# Altium footprint library common.PcbLib: 93 footprints (part 5 of 6)
Each footprint in its own frame and in the unit in brackets; x right, y up, seen from the top. Pads: shape width x height; smd on the part's side, far side on the other; paste and mask are expansions set on the pad; w line width, h text height; cw(c..) or ccw(c..) is an arc to the next point about the centre after c.
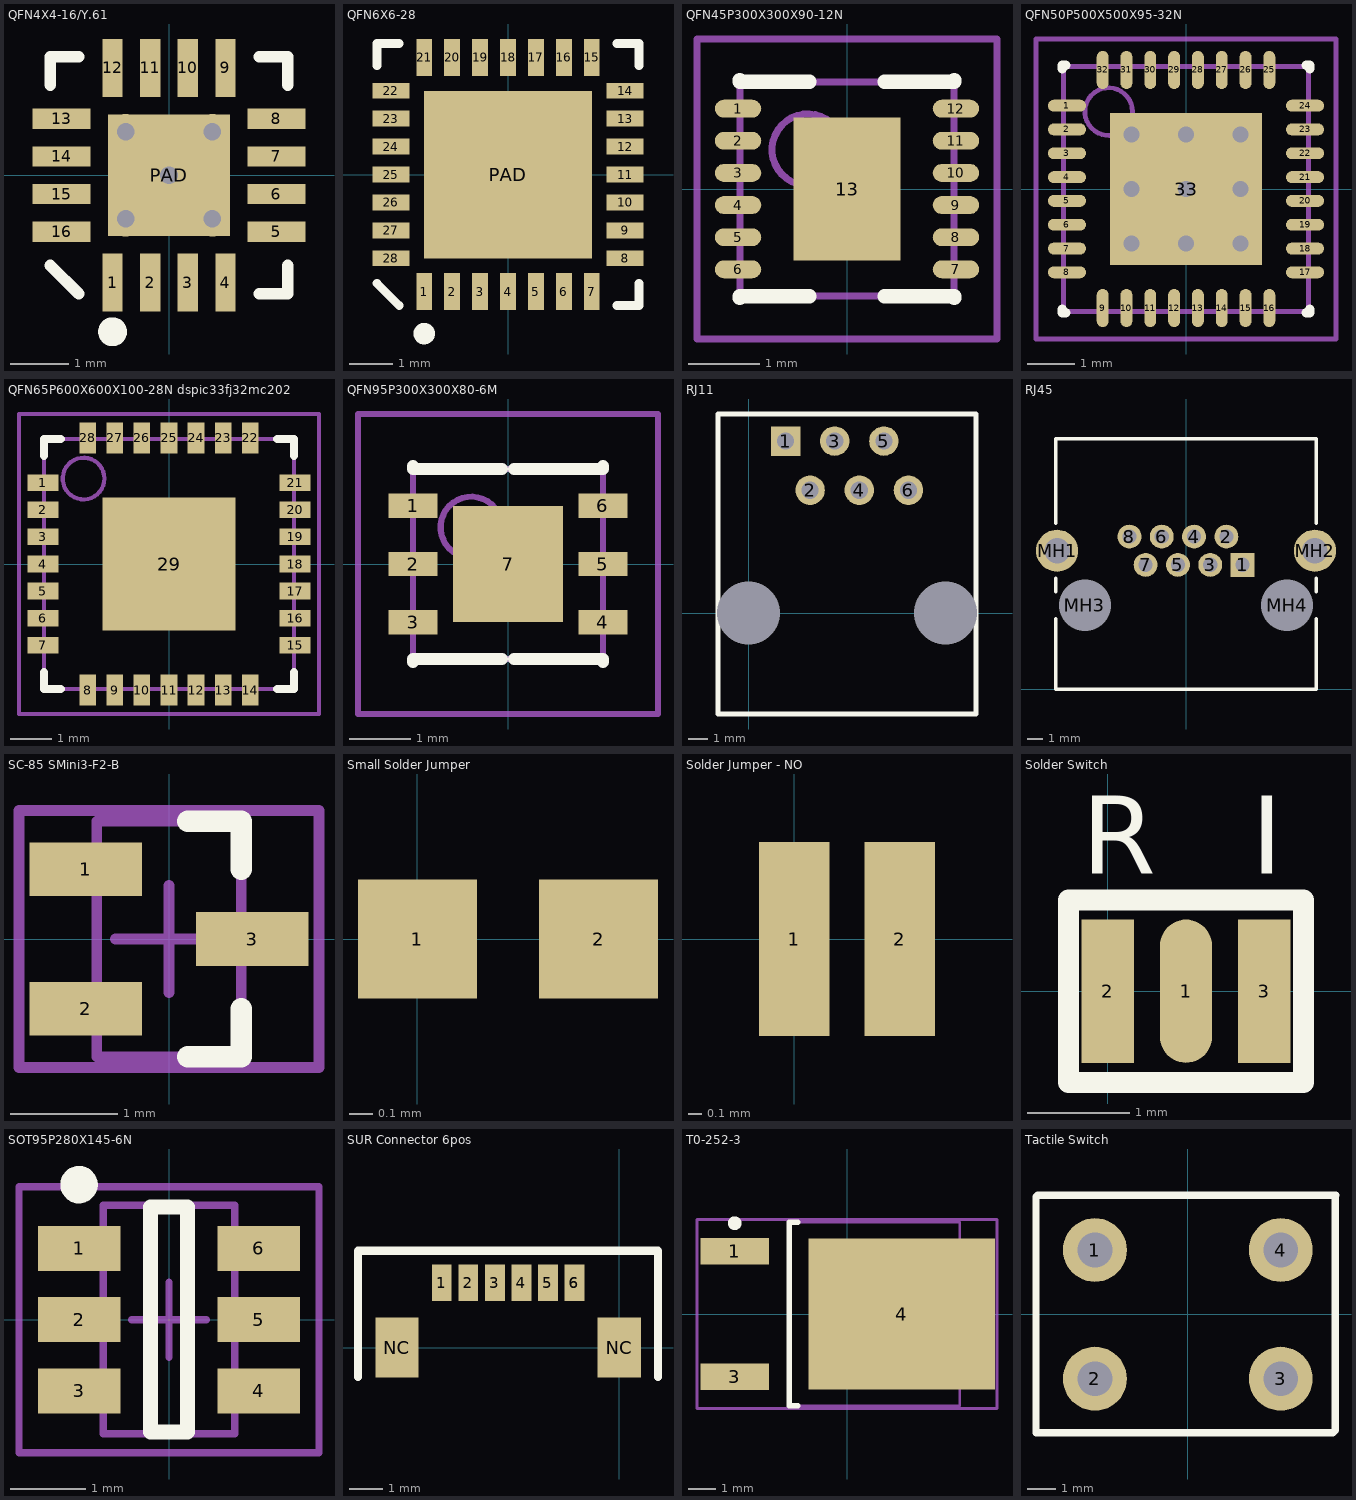
[diagram p4: the footprints below, top view; thin cyan lines are the x and y axes]

## QFN4X4-16/Y.61 [mm] "Quad Flat No Lead, Plastic; 16 Terminals; Body 4 x 4 mm; Pitch 0.65 mm"
height 0.8
pads (17):
  rect 0.35x1 smd: 1(-0.975,-1.855) 2(-0.325,-1.855) 3(0.325,-1.855) 4(0.975,-1.855) 9(0.975,1.855) 10(0.325,1.855) 11(-0.325,1.855) 12(-0.975,1.855)
  rect 1x0.35 smd: 5(1.855,-0.975) 6(1.855,-0.325) 7(1.855,0.325) 8(1.855,0.975) 13(-1.855,0.975) 14(-1.855,0.325) 15(-1.855,-0.325) 16(-1.855,-0.975)
  rect 2.1x2.1 smd: PAD(0,0)
via 0,0 diameter 0.61 hole 0.305
via 0.75,-0.75 diameter 0.61 hole 0.305
via -0.75,-0.75 diameter 0.61 hole 0.305
via 0.75,0.75 diameter 0.61 hole 0.305
via -0.75,0.75 diameter 0.61 hole 0.305
Top Overlay:
  circle w0.25: c-0.975,-2.705 r0.125
  lines w0.2: -2.05,-1.56 -1.56,-2.05 ; -2.05,1.56 -2.05,2.05 -1.56,2.05 ; 1.56,-2.05 2.05,-2.05 2.05,-1.56 ; 1.56,2.05 2.05,2.05 2.05,1.56

## QFN6X6-28 [mm] "Quad Flat No Lead, Plastic, Punch; 28 Terminals; Body 6 x 6 mm; Pitch 0.65 mm"
height 1
pads (29):
  rect 0.37x0.86 smd: 1(-1.95,-2.725) 2(-1.3,-2.725) 3(-0.65,-2.725) 4(0,-2.725) 5(0.65,-2.725) 6(1.3,-2.725) 7(1.95,-2.725) 15(1.95,2.725) 16(1.3,2.725) 17(0.65,2.725) 18(0,2.725) 19(-0.65,2.725) 20(-1.3,2.725) 21(-1.95,2.725)
  rect 0.86x0.37 smd: 8(2.725,-1.95) 9(2.725,-1.3) 10(2.725,-0.65) 11(2.725,0) 12(2.725,0.65) 13(2.725,1.3) 14(2.725,1.95) 22(-2.725,1.95) 23(-2.725,1.3) 24(-2.725,0.65) 25(-2.725,0) 26(-2.725,-0.65) 27(-2.725,-1.3) 28(-2.725,-1.95)
  rect 3.9x3.9 smd: PAD(0,0)
Top Overlay:
  circle w0.25: c-1.95,-3.705 r0.125
  lines w0.2: -3.05,-2.535 -2.535,-3.05 ; -3.05,2.535 -3.05,3.05 -2.535,3.05 ; 2.535,-3.05 3.05,-3.05 3.05,-2.535 ; 2.535,3.05 3.05,3.05 3.05,2.535

## QFN45P300X300X90-12N [mm] "QFN, 12-Leads, Body 3.0x3.0mm (max), Pitch 0.45mm, IPC Medium Density"
height 0.9
pads (13):
  oval 0.65x0.25 smd: 1(-1.525,1.125) 2(-1.525,0.675) 3(-1.525,0.225) 4(-1.525,-0.225) 5(-1.525,-0.675) 6(-1.525,-1.125) 7(1.525,-1.125) 8(1.525,-0.675) 9(1.525,-0.225) 10(1.525,0.225) 11(1.525,0.675) 12(1.525,1.125)
  rect 1.5x2 smd: 13(0,0)
Top Overlay:
  lines w0.2: -1.5,-1.525 -1.5,-1.5 -0.525,-1.5 ; -1.5,1.525 -1.5,1.5 -0.525,1.5 ; 0.525,-1.5 1.5,-1.5 1.5,-1.525 ; 0.525,1.5 1.5,1.5 1.5,1.525
Mechanical 13:
  circle w0.1: c-0.55,0.55 r0.5
  lines w0.1: -1.5,-1.5 1.5,-1.5 1.5,1.5 -1.5,1.5 -1.5,-1.5
Mechanical 15:
  lines w0.1: -0.5,0 0.5,0 ; 0,-0.5 0,0.5 ; -2.1,-2.1 2.1,-2.1 2.1,2.1 -2.1,2.1 -2.1,-2.1
3D body: height 0.9, standoff 0.05, extent -1.5,-1.5 1.5,1.5

## QFN50P500X500X95-32N [mm] "QFN, 32-Leads, Body 5.2x5.2mm (max), Pitch 0.50mm, IPC Medium Density"
height 0.95
pads (33):
  oval 0.8x0.25 smd: 1(-2.5,1.75) 2(-2.5,1.25) 3(-2.5,0.75) 4(-2.5,0.25) 5(-2.5,-0.25) 6(-2.5,-0.75) 7(-2.5,-1.25) 8(-2.5,-1.75) 17(2.5,-1.75) 18(2.5,-1.25) 19(2.5,-0.75) 20(2.5,-0.25) 21(2.5,0.25) 22(2.5,0.75) 23(2.5,1.25) 24(2.5,1.75)
  oval 0.25x0.8 smd: 9(-1.75,-2.5) 10(-1.25,-2.5) 11(-0.75,-2.5) 12(-0.25,-2.5) 13(0.25,-2.5) 14(0.75,-2.5) 15(1.25,-2.5) 16(1.75,-2.5) 25(1.75,2.5) 26(1.25,2.5) 27(0.75,2.5) 28(0.25,2.5) 29(-0.25,2.5) 30(-0.75,2.5) 31(-1.25,2.5) 32(-1.75,2.5)
  rect 3.2x3.2 smd paste-10: 33(0,0)
via 0,0 diameter 0.66 hole 0.33
via -1.143,0 diameter 0.66 hole 0.33
via -1.143,1.143 diameter 0.66 hole 0.33
via 1.143,0 diameter 0.66 hole 0.33
via 1.143,-1.143 diameter 0.66 hole 0.33
via 0,-1.143 diameter 0.66 hole 0.33
via -1.143,-1.143 diameter 0.66 hole 0.33
via 1.143,1.143 diameter 0.66 hole 0.33
via 0,1.143 diameter 0.66 hole 0.33
Top Overlay:
  lines w0.2: -2.6,-2.525 -2.6,-2.6 -2.525,-2.6 ; -2.6,2.525 -2.6,2.6 -2.525,2.6 ; 2.525,-2.6 2.6,-2.6 2.6,-2.525 ; 2.525,2.6 2.6,2.6 2.6,2.525
Top Paste:
  rectangle: -1.524,0.127 -0.127,1.524
  region: 0.127,1.524 0.127,0.127 1.524,0.127 1.524,1.524
  region: -0.127,-1.524 -0.127,-0.127 -1.524,-0.127 -1.524,-1.524
  region: 1.524,-0.127 0.127,-0.127 0.127,-1.524 1.524,-1.524
Mechanical 13:
  circle w0.1: c-1.625,1.625 r0.5
  lines w0.1: -2.575,-2.575 2.575,-2.575 2.575,2.575 -2.575,2.575 -2.575,-2.575
Mechanical 15:
  lines w0.1: -0.5,0 0.5,0 ; 0,-0.5 0,0.5 ; -3.15,-3.15 3.15,-3.15 3.15,3.15 -3.15,3.15 -3.15,-3.15
3D body: height 0.95, standoff 0.01, extent -2.54,-2.61 2.61,2.54

## QFN65P600X600X100-28N dspic33fj32mc202 [mm] "QFN, 28-Leads, Body 6.0x6.0mm (max), Pitch 0.65mm, IPC Medium Density"
height 1
pads (29):
  rect 0.75x0.4 smd: 1(-3.025,1.95) 2(-3.025,1.3) 3(-3.025,0.65) 4(-3.025,0) 5(-3.025,-0.65) 6(-3.025,-1.3) 7(-3.025,-1.95) 15(3.025,-1.95) 16(3.025,-1.3) 17(3.025,-0.65) 18(3.025,0) 19(3.025,0.65) 20(3.025,1.3) 21(3.025,1.95)
  rect 0.4x0.75 smd: 8(-1.95,-3.025) 9(-1.3,-3.025) 10(-0.65,-3.025) 11(0,-3.025) 12(0.65,-3.025) 13(1.3,-3.025) 14(1.95,-3.025) 22(1.95,3.025) 23(1.3,3.025) 24(0.65,3.025) 25(0,3.025) 26(-0.65,3.025) 27(-1.3,3.025) 28(-1.95,3.025)
  rect 3.2x3.2 smd paste-99: 29(0,0)
Top Overlay:
  lines w0.2: -3,-2.6 -3,-3 -2.6,-3 ; -3,2.6 -3,3 -2.6,3 ; 2.6,-3 3,-3 3,-2.6 ; 2.6,3 3,3 3,2.6
Top Paste:
  rectangle: -1.6,0.889 -0.864,1.6
  rectangle: -1.6,-0.483 -0.864,0.517
  rectangle: -1.6,-1.6 -0.864,-0.854
  rectangle: -0.508,-1.6 0.492,-0.864
  rectangle: 0.88,-1.6 1.6,-0.864
  rectangle: -0.508,-0.508 0.492,0.492
  rectangle: 0.88,-0.508 1.6,0.492
  rectangle: -0.508,0.889 0.492,1.625
  rectangle: 0.88,0.889 1.6,1.6
Mechanical 13:
  circle w0.1: c-2.05,2.05 r0.5
  lines w0.1: -3,-3 -3,3 3,3 3,-3 -3,-3
Mechanical 15:
  lines w0.1: -0.5,0 0.5,0 ; 0,-0.5 0,0.5 ; -3.6,-3.6 -3.6,3.6 3.6,3.6 3.6,-3.6 -3.6,-3.6
3D body: height 1, standoff 0, extent -3,-3 3,3

## QFN95P300X300X80-6M [mm] "QFN, 6-Leads, Body 3.1x3.1mm (max), Pitch 0.95mm, IPC Low Density"
height 0.8
pads (7):
  rect 0.8x0.4 smd: 1(-1.55,0.95) 2(-1.55,0) 3(-1.55,-0.95) 4(1.55,-0.95) 5(1.55,0) 6(1.55,0.95)
  rect 1.8x1.9 smd paste-99: 7(0,0)
Top Overlay:
  lines w0.2: -1.55,-1.6 -1.55,-1.55 -0.1,-1.55 ; -1.55,1.6 -1.55,1.55 -0.1,1.55 ; 0.1,-1.55 1.55,-1.55 1.55,-1.6 ; 0.1,1.55 1.55,1.55 1.55,1.6
Top Paste:
  rectangle: -0.763,-0.738 0.737,0.762
Mechanical 13:
  circle w0.1: c-0.6,0.6 r0.5
  lines w0.1: -1.55,-1.55 -1.55,1.55 1.55,1.55 1.55,-1.55 -1.55,-1.55
Mechanical 15:
  lines w0.1: -0.5,0 0.5,0 ; 0,-0.5 0,0.5 ; -2.45,-2.45 -2.45,2.45 2.45,2.45 2.45,-2.45 -2.45,-2.45
3D body: height 0.8, standoff 0.1, extent -1.55,-1.55 1.55,1.55

## RJ11 [mil]
pads (8):
  round 0 hole 128: 0(0,0) 0(400,0)
  rect 60x60 hole 35: 1(75,350)
  round 60 hole 35: 2(125,250) 3(175,350) 4(225,250) 5(275,350) 6(325,250)
Top Overlay:
  lines w10: -62.5,-205 462.5,-205 462.5,405 -62.5,405 -62.5,-205

## RJ45 [mm] "Connector; PCB Jack, Thru-Hole; 1-Port, 8 Positions, 8 Loaded; Shielded without Lightpipes; Right Angle"
height 13.54
pads (12):
  rect 1.5x1.5 hole 0.9: 1(3.556,7.82)
  round 1.5 hole 0.9: 2(2.54,9.598) 3(1.524,7.82) 4(0.508,9.598) 5(-0.508,7.82) 6(-1.524,9.598) 7(-2.54,7.82) 8(-3.556,9.598)
  round 2.65 hole 1.6: MH1(-8.103,8.709) MH2(8.103,8.709)
  round 2.95 hole 3.25 unplated: MH3(-6.35,5.28) MH4(6.35,5.28)
Top Overlay:
  lines w0.2: -8.19,4.434 -8.19,0 8.19,0 8.19,4.434 ; -8.19,6.126 -8.19,6.986 ; -8.19,10.432 -8.19,15.75 8.19,15.75 8.19,10.432 ; 8.19,6.126 8.19,6.986
3D body: height 14.37, standoff -3.44, extent -9.026,-0.076 9.027,15.659

## SC-85 SMini3-F2-B [mm] "SOT23, 3-Leads, Body 2.2x2.2mm (max), Pitch 0.65mm, IPC High Density"
height 1
pads (3):
  rect 1.05x0.5 smd: 1(-0.775,0.65) 2(-0.775,-0.65) 3(0.775,0)
Top Overlay:
  lines w0.2: 0.175,-1.1 0.675,-1.1 0.675,-0.65 ; 0.175,1.1 0.675,1.1 0.675,0.65
Mechanical 13:
  lines w0.1: -0.675,-1.1 0.675,-1.1 0.675,1.1 -0.675,1.1 -0.675,-1.1
Mechanical 15:
  lines w0.1: -0.5,0 0.5,0 ; 0,-0.5 0,0.5 ; -1.4,-1.2 1.4,-1.2 1.4,1.2 -1.4,1.2 -1.4,-1.2
3D body: height 1, standoff 0.13, extent -0.675,-1.1 0.675,1.1

## Small Solder Jumper [mm]
pads (2):
  rect 0.5x0.5 smd paste+0: 1(0,0) 2(0.762,0)

## Solder Jumper - NO [mil]
pads (2):
  rect 20x55 smd paste+0: 1(0,0) 2(30,0)

## Solder Switch [mil]
pads (3):
  oval 20x55 smd: 1(30,0)
  rect 20x55 smd: 2(0,0) 3(60,0)
Top Overlay:
  lines w8: -15,-35 75,-35 75,35 -15,35 -15,-35
  text "R" at -10,45 h30
  text "I" at 55,45 h30

## SOT95P280X145-6N [mm] "SOT23, 6-Leads, Body 3.0x3.0mm (max), Pitch 0.95mm, IPC Medium Density"
height 1.45
pads (6):
  rect 1.1x0.6 smd: 1(-1.2,0.95) 2(-1.2,0) 3(-1.2,-0.95) 4(1.2,-0.95) 5(1.2,0) 6(1.2,0.95)
Top Overlay:
  circle w0.25: c-1.2,1.8 r0.125
  lines w0.2: -0.25,-1.5 0.25,-1.5 0.25,1.5 -0.25,1.5 -0.25,-1.5
Mechanical 13:
  lines w0.1: -0.875,-1.525 -0.875,1.525 0.875,1.525 0.875,-1.525 -0.875,-1.525
Mechanical 15:
  lines w0.1: -0.5,0 0.5,0 ; 0,-0.5 0,0.5 ; -2,-1.775 -2,1.775 2,1.775 2,-1.775 -2,-1.775
3D body: height 1.45, standoff 0.1, extent -0.875,-1.525 0.875,1.525

## SUR Connector 6pos [mm] "SUR Connector Side Entry"
height 1.75
pads (9):
  rect 0.6x1.1 all layers, no hole: 1(-5.35,1.95) 2(-4.55,1.95) 3(-3.75,1.95) 4(-2.95,1.95) 5(-2.15,1.95) 6(-1.35,1.95) 6(-1.35,1.95)
  rect 1.3x1.8 all layers, no hole: NC(-6.7,0) NC(0,0)
Top Overlay:
  lines w0.254: -7.874,-0.889 -7.874,2.921 1.168,2.921 1.168,-0.889

## T0-252-3 [mm] "D-PAK, 3-Pads, Body 6.2x6.7mm (max), IPC High Density"
height 2.39
pads (3):
  rect 2.5x0.95 smd: 1(-4.1,2.29) 3(-4.1,-2.29)
  rect 6.8x5.5 smd: 4(2,0)
Top Overlay:
  circle w0.25: c-4.1,3.315 r0.125
  lines w0.2: -1.8,-3.35 -2.1,-3.35 -2.1,3.35 -1.8,3.35
Mechanical 13:
  lines w0.1: -2.1,-3.35 4.12,-3.35 4.12,3.35 -2.1,3.35 -2.1,-3.35
Mechanical 15:
  lines w0.1: -0.5,0 0.5,0 ; 0,-0.5 0,0.5 ; -5.475,-3.45 5.475,-3.45 5.475,3.45 -5.475,3.45 -5.475,-3.45
3D body: height 2.39, standoff 0.51, extent -2.1,-3.35 4.12,3.35

## Tactile Switch [mil]
height 196.85
pads (4):
  round 88 hole 48: 1(-127.95,88.58) 2(-127.95,-88.58) 3(127.95,-88.58) 4(127.95,88.58)
Top Overlay:
  lines w10: -209,-163 200,-163 203,-160 203,163 204,164 -207,164 -209,162 -209,-163